# EAGLE library part LTC4012IUFPBF (library charging)
High Efficiency,Multi-Chemistry Battery Charger with PowerPath Control Check prices <https://pricing.snapeda.com/parts/LTC4012IUF%23PBF/Analog%20Devices/view-part?ref=eda>
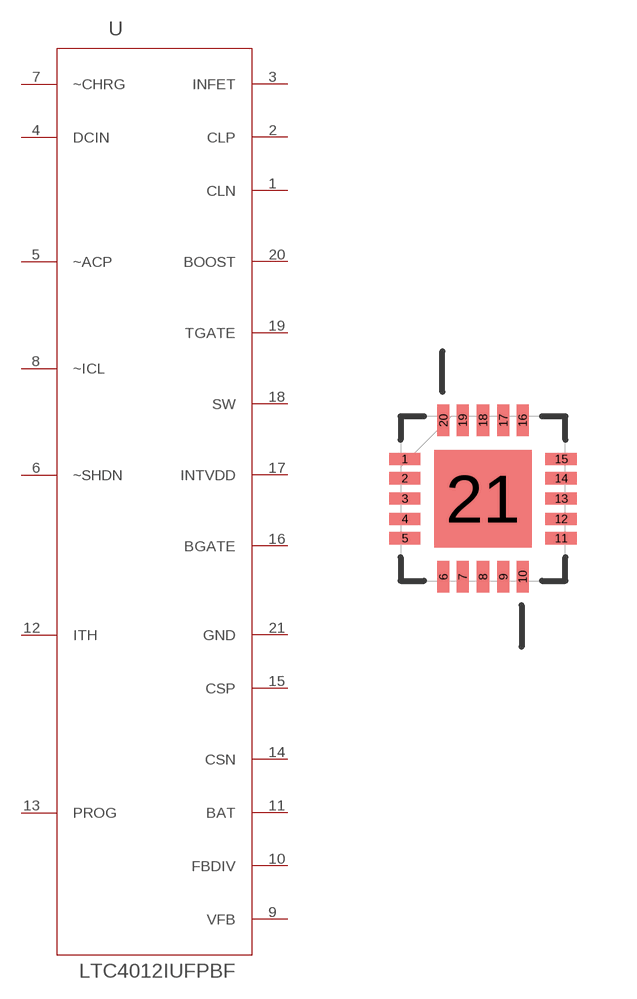
[diagram p0: symbol with the pads of QFN50P400X400X80-21N; footprint QFN50P400X400X80-21N]

Designator prefix U

## LTC4012IUFPBF (AVAILABILITY: In Stock; DESCRIPTION: Charger IC Multi-Chemistry 20-QFN (4x4); MF: Analog Devices; MP: LTC4012IUF#PBF; PACKAGE: QFN -20 Analog Devices; PRICE: None; PURCHASE-URL: https://pricing.snapeda.com/search/part/LTC4012IUF#PBF/?ref=eda)  [QFN50P400X400X80-21N]
1  CLN  in
2  CLP  in
3  INFET  out
4  DCIN  in
5  ~ACP  out
6  ~SHDN  in
7  ~CHRG  out
8  ~ICL  out
9  VFB  in
10  FBDIV  in
11  BAT  pwr
12  ITH  in
13  PROG  in
14  CSN  in
15  CSP  in
16  BGATE  out
17  INTVDD  out
18  SW  pas
19  TGATE  out
20  BOOST  pwr
21  GND  pas

## Footprint QFN50P400X400X80-21N (pad centres in mm)
smd 0.787 x 0.305: 1 -1.956,0.991; 2 -1.956,0.508; 3 -1.956,0; 4 -1.956,-0.508; 5 -1.956,-0.991; 11 1.956,-0.991; 12 1.956,-0.508; 13 1.956,0; 14 1.956,0.508; 15 1.956,0.991
smd 0.305 x 0.787: 6 -0.991,-1.956; 7 -0.508,-1.956; 8 0,-1.956; 9 0.508,-1.956; 10 0.991,-1.956; 16 0.991,1.956; 17 0.508,1.956; 18 0,1.956; 19 -0.508,1.956; 20 -0.991,1.956
smd 2.438 x 2.438: 21 0,0